# EAGLE library part SEN-15335 (library DakotaLib)
SparkFun SEN-15335 9DOF IMU BREAKOUT - ICM-20948
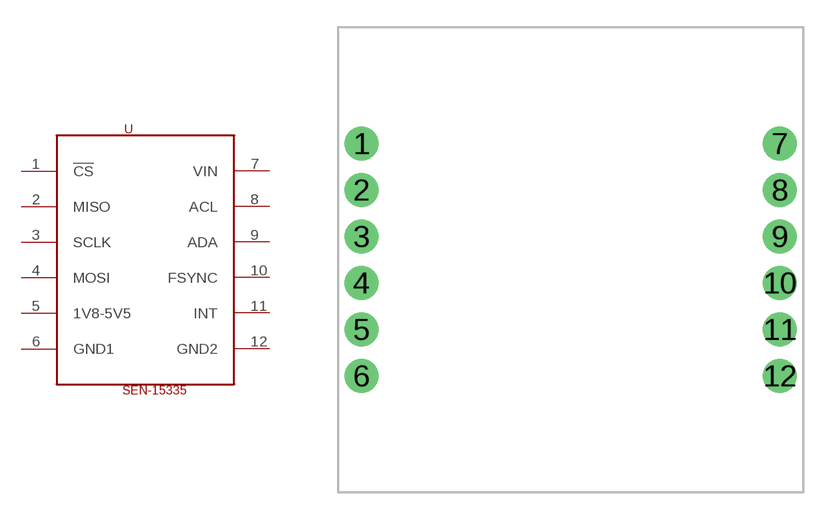
[diagram p0: symbol with the pads of SEN-15335; footprint SEN-15335]

Designator prefix -

## SEN-15335  [SEN-15335]
1  !CS
2  MISO
3  SCLK
4  MOSI
5  1V8-5V5
6  GND1
7  VIN
8  ACL
9  ADA
10  FSYNC
11  INT
12  GND2

## Footprint SEN-15335 (pad centres in mm)
drill 1.016 pad 1.88: 1 -11.43,6.35; 2 -11.43,3.81; 3 -11.43,1.27; 4 -11.43,-1.27; 5 -11.43,-3.81; 6 -11.43,-6.35; 7 11.43,6.35; 8 11.43,3.81; 9 11.43,1.27; 10 11.43,-1.27; 11 11.43,-3.81; 12 11.43,-6.35